# Altium footprint library CONN_W2B.PcbLib: 89 footprints (part 2 of 6)
Each footprint in its own frame and in the unit in brackets; x right, y up, seen from the top. Pads: shape width x height; smd on the part's side, far side on the other; paste and mask are expansions set on the pad; w line width, h text height; cw(c..) or ccw(c..) is an arc to the next point about the centre after c.
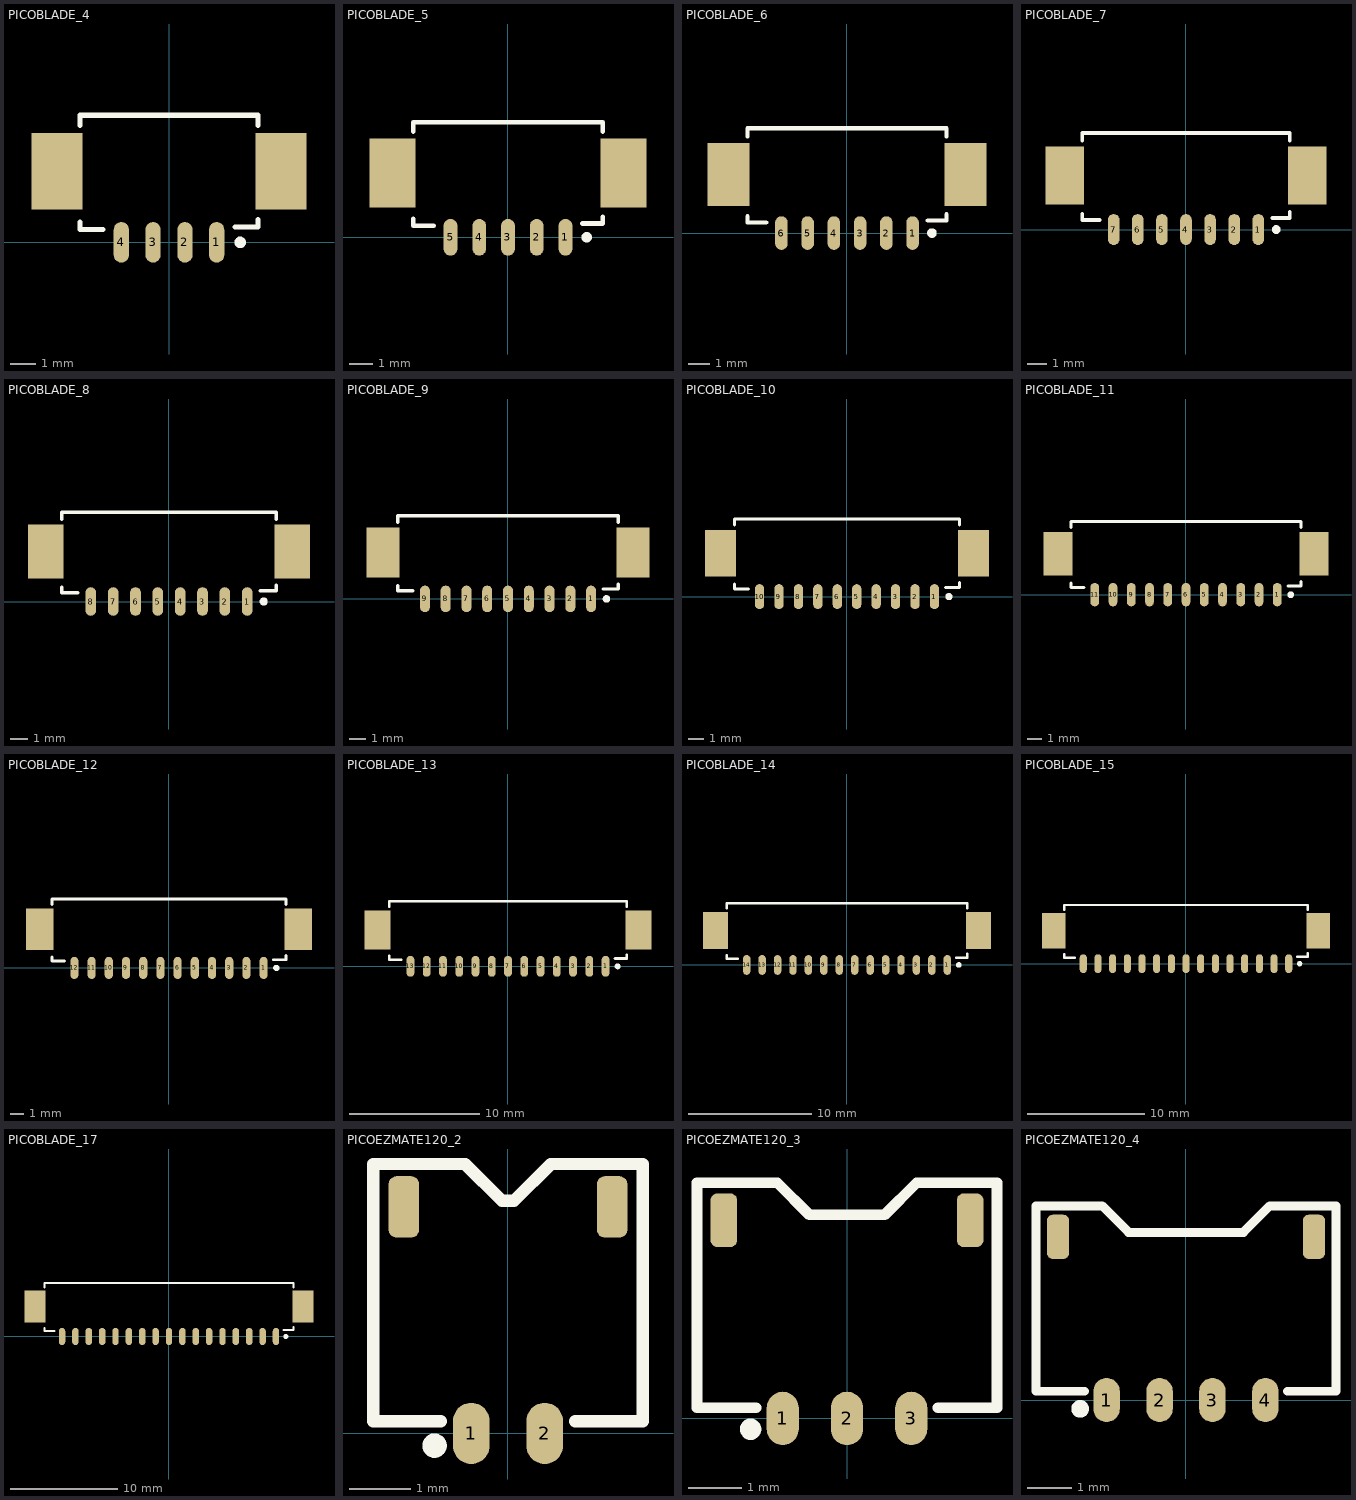
[diagram p1: the footprints below, top view; thin cyan lines are the x and y axes]

## PICOBLADE_4 [mm] "CONN, 1.25mm pitch, Molex PicoBlade 1.0A/250v"
pads (6):
  oval 0.6x1.6 smd: 1(1.875,0) 2(0.625,0) 3(-0.625,0) 4(-1.875,0)
  rect 2x3 smd: ""(-4.4,2.8) ""(4.4,2.8)
Top Overlay:
  circle w0.254: c2.8,0 r0.1
  lines w0.2: -3.5,0.8 -3.5,0.5 -2.6,0.5 ; -3.5,4.6 -3.5,5 3.5,5 3.5,4.6 ; 2.6,0.6 3.5,0.6 3.5,0.9
Mechanical 29:
  text ".Designator" at 3.6,-2.2 h1.52
3D body "532610471.STEP": height 3.4, standoff 0, extent -5.075,-0.3 5.075,4.9

## PICOBLADE_5 [mm] "CONN, 1.25mm pitch, Molex PicoBlade 1.0A/250v"
pads (7):
  oval 0.6x1.6 smd: 1(2.5,0) 2(1.25,0) 3(0,0) 4(-1.25,0) 5(-2.5,0)
  rect 2x3 smd: ""(-5.025,2.8) ""(5.025,2.8)
Top Overlay:
  circle w0.254: c3.425,0 r0.1
  lines w0.2: -4.125,0.8 -4.125,0.5 -3.225,0.5 ; -4.125,4.6 -4.125,5 4.125,5 4.125,4.6 ; 3.225,0.6 4.125,0.6 4.125,0.9
Mechanical 29:
  text ".Designator" at 4.225,-2.2 h1.52
3D body "532610571.STEP": height 3.4, standoff 0, extent -5.7,-0.3 5.7,4.9

## PICOBLADE_6 [mm] "CONN, 1.25mm pitch, Molex PicoBlade 1.0A/250v"
pads (8):
  oval 0.6x1.6 smd: 1(3.125,0) 2(1.875,0) 3(0.625,0) 4(-0.625,0) 5(-1.875,0) 6(-3.125,0)
  rect 2x3 smd: ""(-5.65,2.8) ""(5.65,2.8)
Top Overlay:
  circle w0.254: c4.05,0 r0.1
  lines w0.2: -4.75,0.8 -4.75,0.5 -3.85,0.5 ; -4.75,4.6 -4.75,5 4.75,5 4.75,4.6 ; 3.85,0.6 4.75,0.6 4.75,0.9
Mechanical 29:
  text ".Designator" at 4.85,-2.2 h1.52
3D body "532610671.STEP": height 3.4, standoff 0, extent -6.325,-0.3 6.325,4.9

## PICOBLADE_7 [mm] "CONN, 1.25mm pitch, Molex PicoBlade 1.0A/250v"
pads (9):
  oval 0.6x1.6 smd: 1(3.75,0) 2(2.5,0) 3(1.25,0) 4(0,0) 5(-1.25,0) 6(-2.5,0) 7(-3.75,0)
  rect 2x3 smd: ""(-6.275,2.8) ""(6.275,2.8)
Top Overlay:
  circle w0.254: c4.675,0 r0.1
  lines w0.2: -5.375,0.8 -5.375,0.5 -4.475,0.5 ; -5.375,4.6 -5.375,5 5.375,5 5.375,4.6 ; 4.475,0.6 5.375,0.6 5.375,0.9
Mechanical 29:
  text ".Designator" at 5.475,-2.2 h1.52
3D body "532610771.STEP": height 3.4, standoff 0, extent -6.95,-0.3 6.95,4.9

## PICOBLADE_8 [mm] "CONN, 1.25mm pitch, Molex PicoBlade 1.0A/250v"
pads (10):
  oval 0.6x1.6 smd: 1(4.375,0) 2(3.125,0) 3(1.875,0) 4(0.625,0) 5(-0.625,0) 6(-1.875,0) 7(-3.125,0) 8(-4.375,0)
  rect 2x3 smd: ""(-6.9,2.8) ""(6.9,2.8)
Top Overlay:
  circle w0.254: c5.3,0 r0.1
  lines w0.2: -6,0.8 -6,0.5 -5.1,0.5 ; -6,4.6 -6,5 6,5 6,4.6 ; 5.1,0.6 6,0.6 6,0.9
Mechanical 29:
  text ".Designator" at 6.1,-2.2 h1.52
3D body "532610871.STEP": height 3.4, standoff 0, extent -7.575,-0.3 7.575,4.9

## PICOBLADE_9 [mm] "CONN, 1.25mm pitch, Molex PicoBlade 1.0A/250v"
pads (11):
  oval 0.6x1.6 smd: 1(5,0) 2(3.75,0) 3(2.5,0) 4(1.25,0) 5(0,0) 6(-1.25,0) 7(-2.5,0) 8(-3.75,0) 9(-5,0)
  rect 2x3 smd: ""(-7.525,2.8) ""(7.525,2.8)
Top Overlay:
  circle w0.254: c5.925,0 r0.1
  lines w0.2: -6.625,0.8 -6.625,0.5 -5.725,0.5 ; -6.625,4.6 -6.625,5 6.625,5 6.625,4.6 ; 5.725,0.6 6.625,0.6 6.625,0.9
Mechanical 29:
  text ".Designator" at 6.725,-2.2 h1.52
3D body "532610971.STEP": height 3.4, standoff 0, extent -8.2,-0.3 8.2,4.9

## PICOBLADE_10 [mm] "CONN, 1.25mm pitch, Molex PicoBlade 1.0A/250v"
pads (12):
  oval 0.6x1.6 smd: 1(5.625,0) 2(4.375,0) 3(3.125,0) 4(1.875,0) 5(0.625,0) 6(-0.625,0) 7(-1.875,0) 8(-3.125,0) 9(-4.375,0) 10(-5.625,0)
  rect 2x3 smd: ""(-8.15,2.8) ""(8.15,2.8)
Top Overlay:
  circle w0.254: c6.55,0 r0.1
  lines w0.2: -7.25,0.8 -7.25,0.5 -6.35,0.5 ; -7.25,4.6 -7.25,5 7.25,5 7.25,4.6 ; 6.35,0.6 7.25,0.6 7.25,0.9
Mechanical 29:
  text ".Designator" at 7.35,-2.2 h1.52
3D body "532611071.STEP": height 3.4, standoff 0, extent -8.825,-0.3 8.825,4.9

## PICOBLADE_11 [mm] "CONN, 1.25mm pitch, Molex PicoBlade 1.0A/250v"
pads (13):
  oval 0.6x1.6 smd: 1(6.25,0) 2(5,0) 3(3.75,0) 4(2.5,0) 5(1.25,0) 6(0,0) 7(-1.25,0) 8(-2.5,0) 9(-3.75,0) 10(-5,0) 11(-6.25,0)
  rect 2x3 smd: ""(-8.775,2.8) ""(8.775,2.8)
Top Overlay:
  circle w0.254: c7.175,0 r0.1
  lines w0.2: -7.875,0.8 -7.875,0.5 -6.975,0.5 ; -7.875,4.6 -7.875,5 7.875,5 7.875,4.6 ; 6.975,0.6 7.875,0.6 7.875,0.9
Mechanical 29:
  text ".Designator" at 7.975,-2.2 h1.52
3D body "532611171.STEP": height 3.4, standoff 0, extent -9.45,-0.3 9.45,4.9

## PICOBLADE_12 [mm] "CONN, 1.25mm pitch, Molex PicoBlade 1.0A/250v"
pads (14):
  oval 0.6x1.6 smd: 1(6.875,0) 2(5.625,0) 3(4.375,0) 4(3.125,0) 5(1.875,0) 6(0.625,0) 7(-0.625,0) 8(-1.875,0) 9(-3.125,0) 10(-4.375,0) 11(-5.625,0) 12(-6.875,0)
  rect 2x3 smd: ""(-9.4,2.8) ""(9.4,2.8)
Top Overlay:
  circle w0.254: c7.8,0 r0.1
  lines w0.2: -8.5,0.8 -8.5,0.5 -7.6,0.5 ; -8.5,4.6 -8.5,5 8.5,5 8.5,4.6 ; 7.6,0.6 8.5,0.6 8.5,0.9
Mechanical 29:
  text ".Designator" at 8.6,-2.2 h1.52
3D body "532611271.STEP": height 3.4, standoff 0, extent -10.075,-0.3 10.075,4.9

## PICOBLADE_13 [mm] "CONN, 1.25mm pitch, Molex PicoBlade 1.0A/250v"
pads (15):
  oval 0.6x1.6 smd: 1(7.5,0) 2(6.25,0) 3(5,0) 4(3.75,0) 5(2.5,0) 6(1.25,0) 7(0,0) 8(-1.25,0) 9(-2.5,0) 10(-3.75,0) 11(-5,0) 12(-6.25,0) 13(-7.5,0)
  rect 2x3 smd: ""(-10.025,2.8) ""(10.025,2.8)
Top Overlay:
  circle w0.254: c8.425,0 r0.1
  lines w0.2: -9.125,0.8 -9.125,0.5 -8.225,0.5 ; -9.125,4.6 -9.125,5 9.125,5 9.125,4.6 ; 8.225,0.6 9.125,0.6 9.125,0.9
Mechanical 29:
  text ".Designator" at 9.225,-2.2 h1.52
3D body "532611371.STEP": height 3.4, standoff 0, extent -10.7,-0.3 10.7,4.9

## PICOBLADE_14 [mm] "CONN, 1.25mm pitch, Molex PicoBlade 1.0A/250v"
pads (16):
  oval 0.6x1.6 smd: 1(8.125,0) 2(6.875,0) 3(5.625,0) 4(4.375,0) 5(3.125,0) 6(1.875,0) 7(0.625,0) 8(-0.625,0) 9(-1.875,0) 10(-3.125,0) 11(-4.375,0) 12(-5.625,0) 13(-6.875,0) 14(-8.125,0)
  rect 2x3 smd: ""(-10.65,2.8) ""(10.65,2.8)
Top Overlay:
  circle w0.254: c9.05,0 r0.1
  lines w0.2: -9.75,0.8 -9.75,0.5 -8.85,0.5 ; -9.75,4.6 -9.75,5 9.75,5 9.75,4.6 ; 8.85,0.6 9.75,0.6 9.75,0.9
Mechanical 29:
  text ".Designator" at 9.85,-2.2 h1.52
3D body "532611471.STEP": height 3.4, standoff 0, extent -11.325,-0.3 11.325,4.9

## PICOBLADE_15 [mm] "CONN, 1.25mm pitch, Molex PicoBlade 1.0A/250v"
pads (17):
  oval 0.6x1.6 smd: 1(8.75,0) 2(7.5,0) 3(6.25,0) 4(5,0) 5(3.75,0) 6(2.5,0) 7(1.25,0) 8(0,0) 9(-1.25,0) 10(-2.5,0) 11(-3.75,0) 12(-5,0) 13(-6.25,0) 14(-7.5,0) 15(-8.75,0)
  rect 2x3 smd: ""(-11.275,2.8) ""(11.275,2.8)
Top Overlay:
  circle w0.254: c9.675,0 r0.1
  lines w0.2: -10.375,0.8 -10.375,0.5 -9.475,0.5 ; -10.375,4.6 -10.375,5 10.375,5 10.375,4.6 ; 9.475,0.6 10.375,0.6 10.375,0.9
Mechanical 29:
  text ".Designator" at 10.475,-2.2 h1.52
3D body "532611571.STEP": height 3.4, standoff 0, extent -11.95,-0.3 11.95,4.9

## PICOBLADE_17 [mm] "CONN, 1.25mm pitch, Molex PicoBlade 1.0A/250v"
pads (19):
  oval 0.6x1.6 smd: 1(10,0) 2(8.75,0) 3(7.5,0) 4(6.25,0) 5(5,0) 6(3.75,0) 7(2.5,0) 8(1.25,0) 9(0,0) 10(-1.25,0) 11(-2.5,0) 12(-3.75,0) 13(-5,0) 14(-6.25,0) 15(-7.5,0) 16(-8.75,0) 17(-10,0)
  rect 2x3 smd: ""(-12.525,2.8) ""(12.525,2.8)
Top Overlay:
  circle w0.254: c10.925,0 r0.1
  lines w0.2: -11.625,0.8 -11.625,0.5 -10.725,0.5 ; -11.625,4.6 -11.625,5 11.625,5 11.625,4.6 ; 10.725,0.6 11.625,0.6 11.625,0.9
Mechanical 29:
  text ".Designator" at 11.725,-2.2 h1.52
3D body "532611771.STEP": height 3.4, standoff 0, extent -13.2,-0.3 13.2,4.9

## PICOEZMATE120_2 [mm] "Pico-EZmate, Pitch: 1.2mm, Molex 78171"
height 4
pads (4):
  oval 0.6x1 smd mask+0.075: 1(-0.6,0) 2(0.6,0)
  rrect50% 0.5x1 smd: ""(-1.7,3.7) ""(1.7,3.7)
Top Overlay:
  circle w0.2: c-1.2,-0.2 r0.1
  lines w0.2: -1.1,0.2 -2.2,0.2 -2.2,4.4 -0.7,4.4 -0.1,3.8 0.1,3.8 0.7,4.4 2.2,4.4 2.2,0.2 1.1,0.2
3D body "781710002.stp": height 1.2, standoff -0.25, extent -2.1,-0.2 2.1,4.33

## PICOEZMATE120_3 [mm] "Pico-EZmate, Pitch: 1.2mm, Molex 78171"
height 4
pads (5):
  oval 0.6x1 smd mask+0.075: 1(-1.2,0) 2(0,0) 3(1.2,0)
  rrect50% 0.5x1 smd: ""(-2.3,3.7) ""(2.3,3.7)
Top Overlay:
  circle w0.2: c-1.8,-0.2 r0.1
  lines w0.2: -1.7,0.2 -2.8,0.2 -2.8,4.4 -1.3,4.4 -0.7,3.8 0.7,3.8 1.3,4.4 2.8,4.4 2.8,0.2 1.7,0.2
3D body "781710003.stp": height 1.2, standoff -0.25, extent -2.7,-0.2 2.7,4.33

## PICOEZMATE120_4 [mm] "Pico-EZmate, Pitch: 1.2mm, Molex 78171"
height 4
pads (6):
  oval 0.6x1 smd mask+0.075: 1(-1.8,0) 2(-0.6,0) 3(0.6,0) 4(1.8,0)
  rrect50% 0.5x1 smd: ""(-2.9,3.7) ""(2.9,3.7)
Top Overlay:
  circle w0.2: c-2.4,-0.2 r0.1
  lines w0.2: -2.3,0.2 -3.4,0.2 -3.4,4.4 -1.9,4.4 -1.3,3.8 1.3,3.8 1.9,4.4 3.4,4.4 3.4,0.2 2.3,0.2
3D body "781710004.stp": height 1.45, standoff 0, extent -3.3,-0.2 3.3,4.33